# EAGLE library part LM301ANG (library ON_Semiconductor_By_element14_Batch_1)
Operational Amplifiers
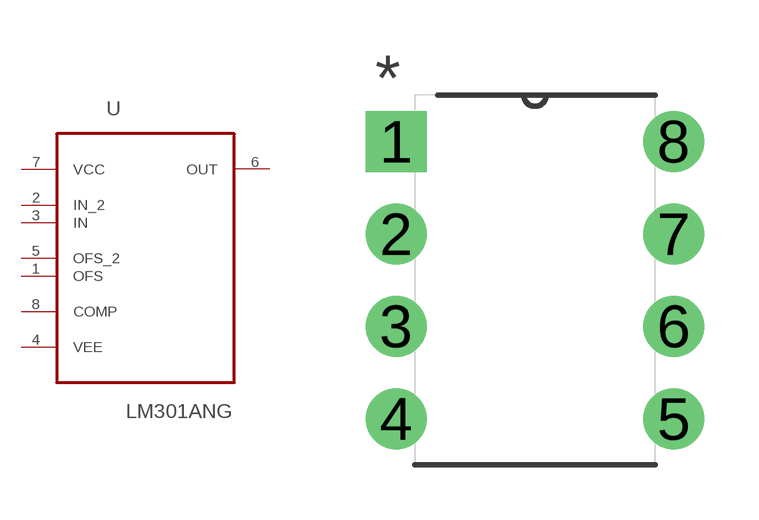
[diagram p50: symbol with the pads of DIP254P762X445-8; footprint DIP254P762X445-8]

Designator prefix U

## LM301ANG (MPN: LM301ANG; OC_FARNELL: 1125957; OC_NEWARK: 26K3624; PACKAGE: PDIP; SUPPLIER: ON SEMICONDUCTOR)  [DIP254P762X445-8]
1  OFS  pas
2  IN_2  in
3  IN  in
4  VEE  pas
5  OFS_2  pas
6  OUT  out
7  VCC  pwr
8  COMP  pas

## Footprint DIP254P762X445-8 (pad centres in mm)
drill 1.118 square: 1 -7.62,7.62
drill 1.118: 2 -7.62,5.08; 3 -7.62,2.54; 4 -7.62,0; 5 0,0; 6 0,2.54; 7 0,5.08; 8 0,7.62